# Altium footprint library crystal.PCBLIB: 66 footprints (part 4 of 5)
Each footprint in its own frame and in the unit in brackets; x right, y up, seen from the top. Pads: shape width x height; smd on the part's side, far side on the other; paste and mask are expansions set on the pad; w line width, h text height; cw(c..) or ccw(c..) is an arc to the next point about the centre after c.
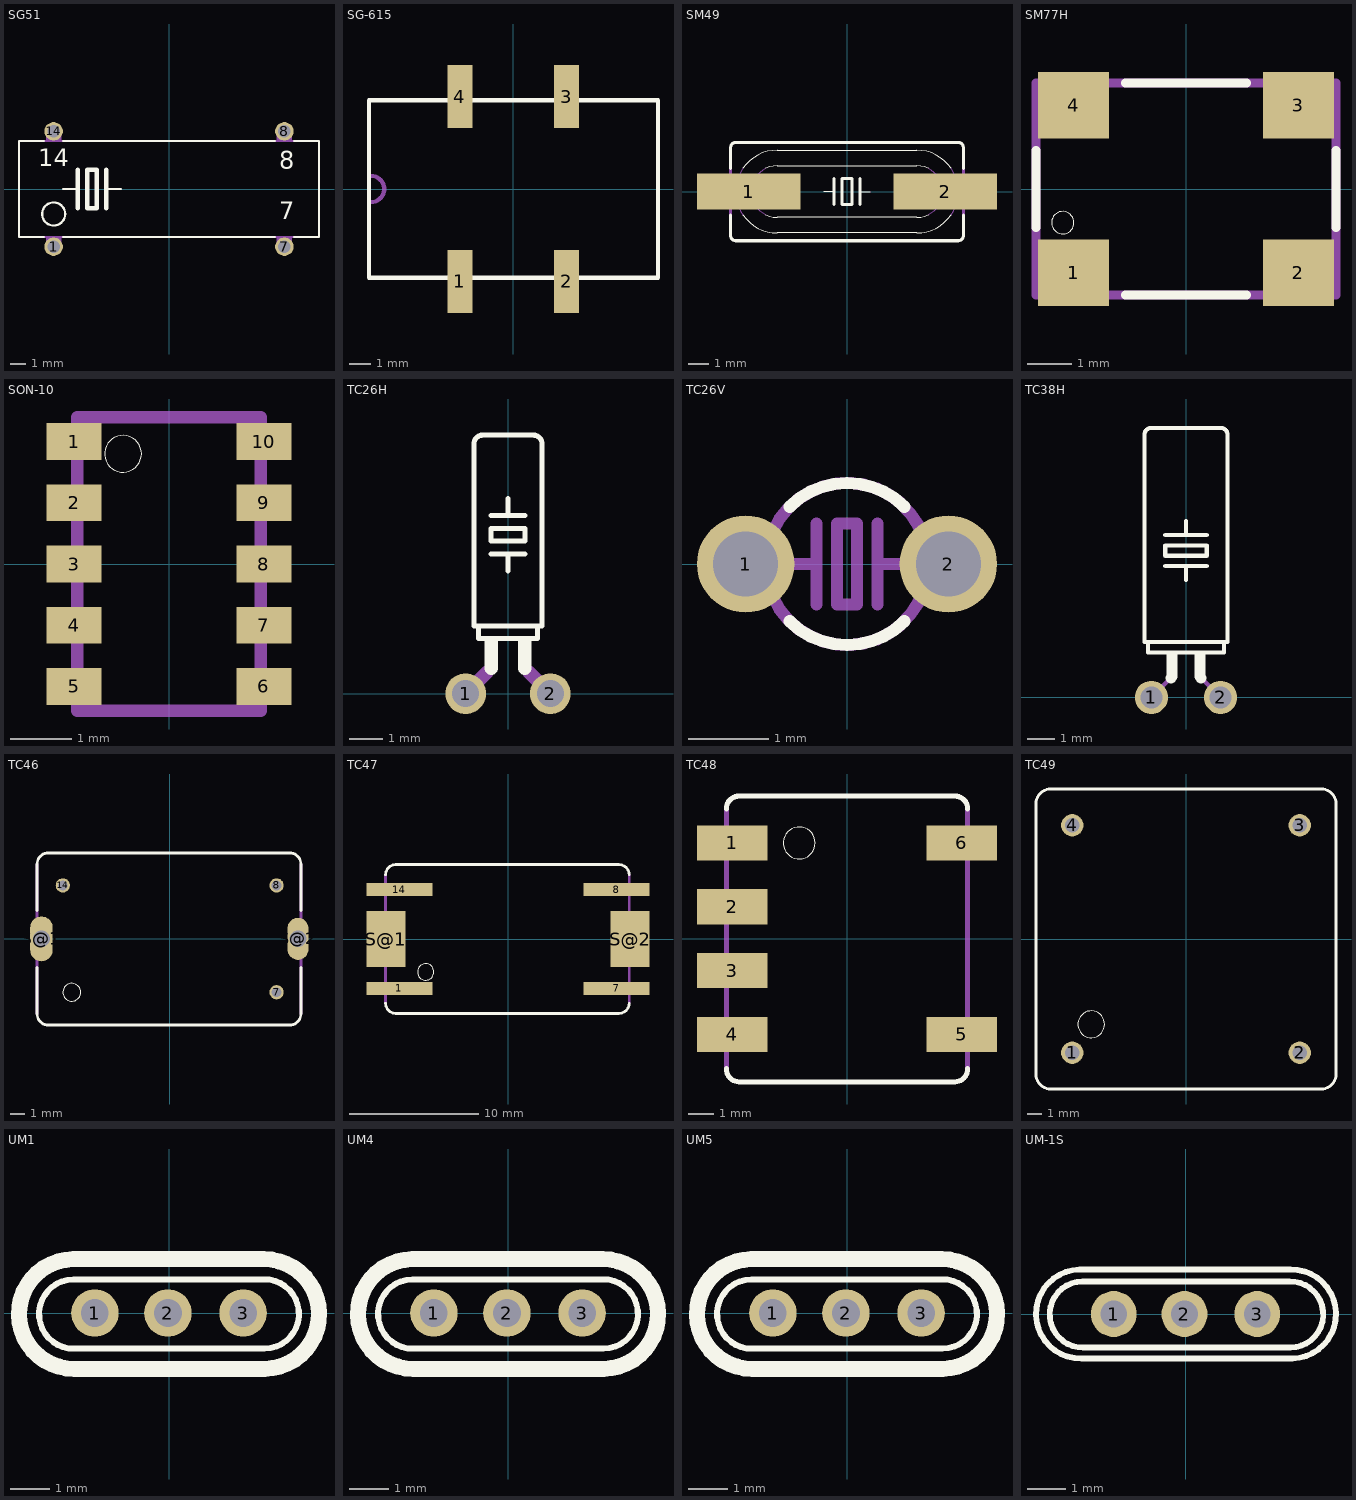
[diagram p3: the footprints below, top view; thin cyan lines are the x and y axes]

## SG51 [mil]
pads (4):
  round 48 hole 32: 1(-300,-150) 7(300,-150) 8(300,150) 14(-300,150)
Top Overlay:
  circle w6: c-300,-65 r30
  lines w6: -325,-125 -390,-125 -390,125 -325,125 ; -275,-125 275,-125 ; -275,0 -237,0 ; -275,125 275,125 ; -163,0 -125,0 ; 325,-125 390,-125 390,125 325,125
  lines w12: -237,-50 -237,0 -237,50 ; -163,-50 -163,0 -163,50 ; -213,-50 -213,50 -188,50 -188,-50 -213,-50
  text "14" at -340,44 h77.5
  text "7" at 287,-94 h77.5
  text "8" at 287,37 h77.5
Mechanical 16:
  rectangle: 280,-155 320,-125
  rectangle: 280,125 320,155
  rectangle: -320,-155 -280,-125
  rectangle: -320,125 -280,155
  lines w6: -325,-125 -275,-125 ; -325,125 -275,125 ; 275,-125 325,-125 ; 275,125 325,125

## SG-615 [mm]
pads (4):
  rect 1.2x3 smd: 1(-2.54,-4.4) 2(2.54,-4.4) 3(2.54,4.4) 4(-2.54,4.4)
Top Overlay:
  lines w0.203: -6.875,-4.225 6.9,-4.225 6.9,4.225 -6.875,4.225 -6.875,-4.225
Mechanical 16:
  rectangle: -2.8,4.25 -2.275,4.9
  rectangle: 2.28,4.25 2.805,4.9
  region: 2.8,-4.25 2.275,-4.25 2.275,-4.9 2.8,-4.9
  region: -2.28,-4.25 -2.805,-4.25 -2.805,-4.9 -2.28,-4.9
  lines w0.203: -6.775,-0.625 ccw(c-6.775,0) -6.775,0.625

## SM49 [mil]
pads (2):
  rect 200x70 smd: 1(-190,0) 2(190,0)
Top Overlay:
  lines w2: -201.15,-45 ccw(c-135,0) -135,-80 135,-80 ccw(c135,0) 201.14,-45 ; -201.15,45 cw(c-135,-0.01) -135,80 135,80 cw(c135,0) 201.15,45 ; -156.8,-45 ccw(c-135,0.01) -135,-50 135,-50 ccw(c135,0.01) 156.8,-45 ; -156.8,45 cw(c-135,-0.01) -135,50 135,50 cw(c135,-0.01) 156.8,45 ; -45,0 -25,0 ; 25,0 45,0
  lines w6: -225,-45 -225,-85 ccw(c-215,-85) -215,-95 215,-95 ccw(c215,-85) 225,-85 225,-45 ; -225,45 -225,85 cw(c-215,85) -215,95 215,95 cw(c215,85) 225,85 225,45 ; -25,-25 -25,0 -25,25 ; 25,-25 25,0 25,25 ; -10,-25 -10,25 10,25 10,-25 -10,-25
Mechanical 16:
  lines w2: -201.15,-45 cw(c-135,0) -201.15,45 ; -156.8,-45 cw(c-135,0) -156.8,45 ; 156.8,-45 ccw(c135,0) 156.8,45 ; 201.15,-45 ccw(c135,0) 201.15,45
  lines w6: -225,-45 -225,45 ; -225,-15 -255,-15 -255,15 -225,15 ; 225,-45 225,-15 ; 225,45 225,15 ; 225,-15 225,15 ; 225,-15 255,-15 255,15 225,15
Via Holes:
  rectangle: -260,-100 260,110

## SM77H [mil]
pads (4):
  rect 62.99x59.06 smd: 1(-100.39,-74.8) 2(100.39,-74.8) 3(100.39,74.8) 4(-100.39,74.8)
Top Overlay:
  circle w0: c-110,-30 r10
  lines w8: -133.86,-34.49 -133.86,34.49 ; -53.86,-94.49 53.86,-94.49 ; -53.86,94.49 53.86,94.49 ; 133.86,-34.49 133.86,34.49
Mechanical 16:
  lines w8: -133.86,-94.49 133.86,-94.49 133.86,94.49 -133.86,94.49 -133.86,-94.49

## SON-10 [mm]
pads (10):
  rect 0.9x0.6 smd: 1(-1.55,2) 2(-1.55,1) 3(-1.55,0) 4(-1.55,-1) 5(-1.55,-2) 6(1.55,-2) 7(1.55,-1) 8(1.55,0) 9(1.55,1) 10(1.55,2)
Top Overlay:
  circle w0: c-0.75,1.8 r0.301
Mechanical 16:
  lines w0.203: -1.5,-2.4 -1.5,2.4 1.5,2.4 1.5,-2.4 -1.5,-2.4

## TC26H [mil]
pads (2):
  round 48 hole 32: 1(-50,0) 2(50,0)
Top Overlay:
  rectangle: 12,40 28,63
  rectangle: -28,40 -12,63
  lines w6: -20,165 0,165 ; -20,210 0,210 ; 0,145 0,165 ; 0,230 0,210 ; 20,165 0,165 ; 20,210 0,210 ; -35,80 -35,65 35,65 35,80 ; -35,80 -40,80 -40,295 cw(c-30,295) -30,305 30,305 cw(c30,295) 40,295 40,80 35,80 ; -35,80 35,80 ; -20,180 -20,195 20,195 20,180 -20,180
  lines w16: -20,30 -20,50 ; 20,30 20,45
Mechanical 16:
  lines w16: -50,0 -25,25 ; 25,25 50,0
Via Holes:
  rectangle: -70,30 70,330

## TC26V [mil]
pads (2):
  round 48 hole 32: 1(-50,0) 2(50,0)
Top Overlay:
  lines w6: -28.28,-28.28 ccw(c0.01,0) 0,-40 ccw(c-0.01,0) 28.28,-28.28 ; -28.28,28.28 cw(c0.01,0) 0,40 cw(c-0.01,0) 28.28,28.28
Mechanical 16:
  circle w6: c0,0 r40
  lines w6: -30,0 -15,0 ; -15,-20 -15,0 ; -15,20 -15,0 ; 15,-20 15,0 ; 15,20 15,0 ; 30,0 15,0 ; -5,-20 5,-20 5,20 -5,20 -5,-20

## TC38H [mil]
pads (2):
  round 48 hole 32: 1(-50,0) 2(50,0)
Top Overlay:
  rectangle: 12,40 28,63
  rectangle: -28,40 -12,63
  lines w6: -30,190 0,190 ; -30,235 0,235 ; 0,170 0,190 ; 0,255 0,235 ; 30,190 0,190 ; 30,235 0,235 ; -55,80 -55,65 55,65 55,80 ; -55,80 -60,80 -60,380 cw(c-50,380) -50,390 50,390 cw(c50,380) 60,380 60,80 55,80 ; -55,80 55,80 ; -30,205 -30,220 30,220 30,205 -30,205
  lines w16: -22,28 -20,30 -20,40 ; 20,45 20,30 22,28
Mechanical 16:
  lines w6: -50,0 -25,25 ; 25,25 50,0
Via Holes:
  rectangle: -70,40 70,410

## TC46 [mil]
pads (5):
  round 40 hole 27.56: 7(300,-150) 8(300,150) 14(-300,150)
  oval 62.99x125.98 hole 47.24: S@1(-360,0)
  oval 59.06x118.12 hole 47.24: S@2(360,0)
Top Overlay:
  circle w0: c-275,-150 r25
  lines w8: -372.05,-80.35 -372.05,-210.63 ccw(c-340.55,-210.63) -340.55,-242.13 336.61,-242.13 ccw(c336.61,-210.63) 368.11,-210.63 368.11,-80.35 ; -372.05,79.37 -372.05,209.65 cw(c-340.56,209.65) -340.55,241.14 336.61,241.14 cw(c336.62,209.65) 368.11,209.65 368.11,79.37
Mechanical 11:
  lines w0: -383.62,-30.32 ccw(c-360,-30.32) -360,-53.94 ccw(c-360,-30.32) -336.38,-30.32 -336.38,30.32 ccw(c-360,30.32) -360,53.94 ccw(c-360,30.32) -383.62,30.32 -383.62,-30.32 ; 336.38,-30.32 ccw(c360,-30.32) 360,-53.94 ccw(c360,-30.32) 383.62,-30.32 383.62,30.32 ccw(c360,30.32) 360,53.94 ccw(c360,30.32) 336.38,30.32 336.38,-30.32
Mechanical 16:
  lines w8: -372.05,-210.63 -372.05,209.65 ; 368.11,-210.63 368.11,209.65

## TC47 [mm]
pads (6):
  rect 5.08x1 smd: 1(-8.38,-3.81) 7(8.38,-3.81) 8(8.38,3.81) 14(-8.38,3.81)
  rect 3x4.3 smd: S@1(-9.425,0) S@2(9.425,0)
Top Overlay:
  circle w0: c-6.35,-2.54 r0.635
  lines w0.203: -9.45,-4.95 ccw(c-8.65,-4.95) -8.65,-5.75 8.55,-5.75 ccw(c8.55,-4.95) 9.35,-4.95 ; -9.45,4.95 cw(c-8.65,4.95) -8.65,5.75 8.55,5.75 cw(c8.55,4.95) 9.35,4.95
Mechanical 16:
  lines w0.203: -9.45,-4.95 -9.45,4.95 ; 9.35,-4.95 9.35,4.95

## TC48 [mil]
pads (6):
  rect 110.24x55.12 smd: 1(-179.92,150) 2(-179.92,50) 3(-179.92,-50) 4(-179.92,-150) 5(179.92,-150) 6(179.92,150)
Top Overlay:
  circle w0: c-75,150 r25
  lines w8: -189.02,-203.68 ccw(c-168.85,-204.23) -169.33,-224.41 169.33,-224.41 ccw(c168.85,-204.24) 189.02,-203.68 ; -189.02,203.68 cw(c-169.34,203.75) -169.33,223.43 169.33,223.43 cw(c169.33,203.74) 189.02,203.68
Mechanical 16:
  lines w8: -189.02,-203.68 -189.02,203.68 ; 189.02,-203.68 189.02,203.68

## TC49 [mm]
pads (4):
  round 1.5 hole 1: 1(-7.62,-7.62) 2(7.62,-7.62) 3(7.62,7.62) 4(-7.62,7.62)
Top Overlay:
  circle w0: c-6.35,-5.715 r0.898
  lines w0.203: -10.05,-9.05 -10.05,9.05 cw(c-9.05,9.05) -9.05,10.05 9.05,10.05 cw(c9.05,9.05) 10.05,9.05 10.05,-9.05 cw(c9.05,-9.05) 9.05,-10.05 -9.05,-10.05 cw(c-9.05,-9.05) -10.05,-9.05

## UM1 [mil]
pads (3):
  round 47.24 hole 27.56: 1(-73.82,0) 2(-1.06,0) 3(73.82,0)
Top Overlay:
  lines w6: -95.32,33.58 94.33,33.58 cw(c94.83,-0.98) 95.32,-35.55 -94.33,-35.55 cw(c-94.83,-0.98) -95.32,33.58
  lines w16: -95.32,53.58 94.33,53.58 cw(c94.83,-0.98) 95.32,-55.55 -94.33,-55.55 cw(c-94.83,-0.98) -95.32,53.58

## UM4 [mil]
pads (3):
  round 47.24 hole 27.56: 1(-73.82,0) 2(-1.06,0) 3(73.82,0)
Top Overlay:
  lines w6: -95.32,33.58 94.33,33.58 cw(c94.83,-0.98) 95.32,-35.55 -94.33,-35.55 cw(c-94.83,-0.98) -95.32,33.58
  lines w16: -95.32,53.58 94.33,53.58 cw(c94.83,-0.98) 95.32,-55.55 -94.33,-55.55 cw(c-94.83,-0.98) -95.32,53.58

## UM5 [mil]
pads (3):
  round 47.24 hole 27.56: 1(-73.82,0) 2(-1.06,0) 3(73.82,0)
Top Overlay:
  lines w6: -95.32,33.58 94.33,33.58 cw(c94.83,-0.98) 95.32,-35.55 -94.33,-35.55 cw(c-94.83,-0.98) -95.32,33.58
  lines w16: -95.32,53.58 94.33,53.58 cw(c94.83,-0.98) 95.32,-55.55 -94.33,-55.55 cw(c-94.83,-0.98) -95.32,53.58

## UM-1S [mil]
pads (3):
  round 47.24 hole 27.56: 1(-73.82,0) 2(-1.06,0) 3(73.82,0)
Top Overlay:
  lines w6: -109.09,45.71 108.11,45.71 cw(c109.09,0) 110.08,-45.71 -107.13,-45.71 cw(c-108.11,0) -109.09,45.71 ; -106.14,33.58 107.13,33.58 cw(c107.62,-0.49) 108.11,-34.57 -105.16,-34.57 cw(c-105.65,-0.49) -106.14,33.58